# EAGLE library part NS2009 (library NS2009)
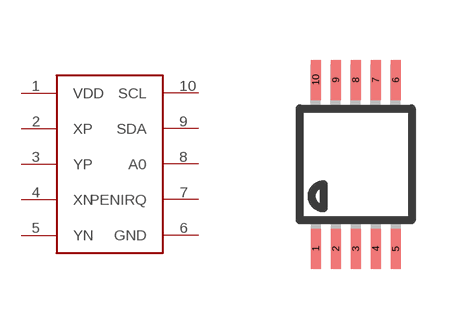
[diagram p0: symbol with the pads of MSOP10; footprint MSOP10]

Designator prefix -

## NS2009  [MSOP10]
1  VDD
2  XP
3  YP
4  XN
5  YN
6  GND
7  PENIRQ
8  A0
9  SDA
10  SCL

## Footprint MSOP10 (pad centres in mm)
smd 0.25 x 1: 1 -1,-2.113; 2 -0.5,-2.113; 3 0,-2.113; 4 0.5,-2.113; 5 1,-2.113; 6 1,2.113; 7 0.5,2.113; 8 0,2.113; 9 -0.5,2.113; 10 -1,2.113